# Altium schematic symbol library ar.SchLib: 1 symbol
Pins are listed as number, name and electrical type; pins without a type are passive.

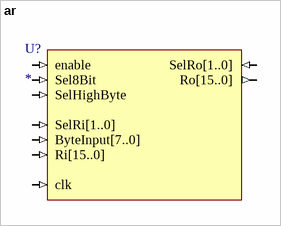
[diagram p0: symbol ar]

## ar
designator U?
pins: ByteInput[7..0] (in), clk (in), enable (in), Ri[15..0] (in), Ro[15..0] (out), Sel8Bit (in), SelHighByte (in), SelRi[1..0] (in), SelRo[1..0] (in)